# Altium integrated library Altium_Ceramic_Cap.IntLib: 110 symbols (part 2 of 3)
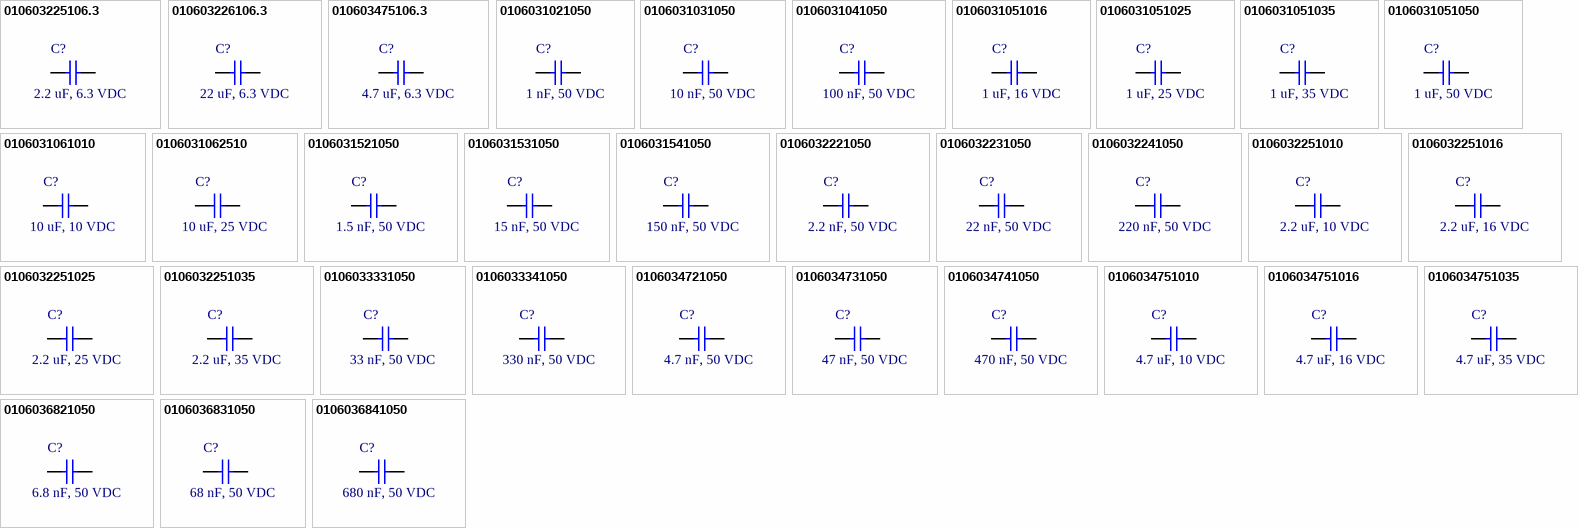
[diagram p6: symbols 010603225106.3 to 0106036841050]

## 0106032251035
designator C?, comment 2.2 uF, 35 VDC
CAP, size 0603, 2.2 uF, 35 VDC, 10%; Manufacturer: Samsung Electro-Mechanics; Manufacturer Part Number: CL10A225KL8NNNC; Capacitance: 2.2 uF; Tolerance: +/-10%; Voltage Rating DC: 35 VDC; Packaging: Tape and Reel; Supplier 1 URL: https://www.mouser.vn/ProductDetail/Samsung-Electro-Mechanics/CL10A225KL8NNNC?qs=xZ%2FP%252Ba9zWqba%2FklSReM66A%3D%3D&utm_source=mouser-refine-download&utm_medium=file&utm_campaign=CL10A225KL8NNNC&utm_content=Samsung-Electro-Mechanics; Supplier 2 URL: https://www.digikey.com/en/products/detail/samsung-electro-mechanics/cl10a225kl8nnnc/5961210; Supplier 3 URL: N/A; Value: 2.2 uF, 35 VDC; Supplier 1: Mouser; Supplier 1 Part Number: 187-CL10A225KL8NNNC; Supplier 2: Digi-Key; Supplier 2 Part Number: 1276-6726-2-ND; Supplier 3: thegioiic; Supplier 3 Part Number: N/A; ComponentLink1Description: Datasheet; ComponentLink1URL: https://www.mouser.vn/datasheet/2/585/MLCC-1837944.pdf; Mount: SMD/SMT; Operating Temperature Max: + 85 C; Operating Temperature Min: - 40 C; Package / Case: 0603; LCSC Part #: N/A
footprint CAP_0603
pins: 1, 2

## 0106033331050
designator C?, comment 33 nF, 50 VDC
CAP, size 0603, 33 nF, 50 VDC, 10%; Manufacturer: TDK; Manufacturer Part Number: CGA3E2X7R1H333K080AA; Capacitance: 33 nF; Tolerance: +/-10%; Voltage Rating DC: 50 VDC; Packaging: Tape and Reel; Supplier 1 URL: https://www.mouser.com/ProductDetail/TDK/CGA3E2X7R1H333K080AA?qs=NRhsANhppD8XLu6u%252B%2FdPcg%3D%3D&utm_source=mouser-refine-download&utm_medium=file&utm_campaign=CGA3E2X7R1H333K080AA&utm_content=TDK; Supplier 2 URL: https://www.digikey.com/en/products/detail/tdk-corporation/cga3e2x7r1h333k080aa/2672817; Supplier 3 URL: N/A; Value: 33 nF, 50 VDC; Supplier 1: Mouser; Supplier 1 Part Number: 810-CGA3E2X7R1H333K; Supplier 2: Digi-Key; Supplier 2 Part Number: 445-6924-2-ND; Supplier 3: thegioiic; Supplier 3 Part Number: N/A; ComponentLink1Description: Datasheet; ComponentLink1URL: https://product.tdk.com/system/files/dam/doc/product/capacitor/ceramic/mlcc/catalog/mlcc_automotive_general_en.pdf?ref_disty=mouser; Mount: SMD/SMT; Operating Temperature Max: + 85 C; Operating Temperature Min: - 40 C; Package / Case: 0603; LCSC Part #: N/A
footprint CAP_0603
pins: 1, 2

## 0106033341050
designator C?, comment 330 nF, 50 VDC
CAP, size 0603, 330 nF, 50 VDC, 10%; Manufacturer: TDK; Manufacturer Part Number: CGA3E3X7R1H334K080AB; Capacitance: 330 nF; Tolerance: +/-10%; Voltage Rating DC: 50 VDC; Packaging: Tape and Reel; Supplier 1 URL: https://www.mouser.com/ProductDetail/TDK/CGA3E3X7R1H334K080AB?qs=xLDY6iXSiQYX1%2FLGJVHTlg%3D%3D&utm_source=mouser-refine-download&utm_medium=file&utm_campaign=CGA3E3X7R1H334K080AB&utm_content=TDK; Supplier 2 URL: https://www.digikey.com/en/products/detail/tdk-corporation/cga3e3x7r1h334k080ab/4931465; Supplier 3 URL: N/A; Value: 330 nF, 50 VDC; Supplier 1: Mouser; Supplier 1 Part Number: 810-CGA3E3X7R1H334KB; Supplier 2: Digi-Key; Supplier 2 Part Number: 445-174426-2-ND; Supplier 3: thegioiic; Supplier 3 Part Number: N/A; ComponentLink1Description: Datasheet; ComponentLink1URL: https://product.tdk.com/system/files/dam/doc/product/capacitor/ceramic/mlcc/catalog/mlcc_automotive_general_en.pdf?ref_disty=mouser; Mount: SMD/SMT; Operating Temperature Max: + 85 C; Operating Temperature Min: - 40 C; Package / Case: 0603; LCSC Part #: N/A
footprint CAP_0603
pins: 1, 2

## 0106034721050
designator C?, comment 4.7 nF, 50 VDC
CAP, size 0603, 4.7 nF, 50 VDC, 10%; Manufacturer: TDK; Manufacturer Part Number: CGA3E2X7R1H472K080AE; Capacitance: 4.7 nF; Tolerance: +/-10%; Voltage Rating DC: 50 VDC; Packaging: Tape and Reel; Supplier 1 URL: https://www.mouser.com/ProductDetail/TDK/CGA3E2X7R1H472K080AE?qs=nQSIdc08i%252BfCN3g%2Fbr3IGA%3D%3D&utm_source=mouser-refine-download&utm_medium=file&utm_campaign=CGA3E2X7R1H472K080AE&utm_content=TDK; Supplier 2 URL: https://www.digikey.com/en/products/detail/tdk-corporation/cga3e2x7r1h472k080ae/5809256; Supplier 3 URL: https://www.thegioiic.com/tu-gom-0603-4-7nf-50v; Value: 4.7 nF, 50 VDC; Supplier 1: Mouser; Supplier 1 Part Number: 810-CGA3E2X7R1H472KA; Supplier 2: Digi-Key; Supplier 2 Part Number: 445-173691-2-ND; Supplier 3: thegioiic; Supplier 3 Part Number: N/A; ComponentLink1Description: Datasheet; ComponentLink1URL: https://product.tdk.com/system/files/dam/doc/product/capacitor/ceramic/mlcc/catalog/mlcc_automotive_soft_en.pdf?ref_disty=mouser; Mount: SMD/SMT; Operating Temperature Max: + 85 C; Operating Temperature Min: - 40 C; Package / Case: 0603; LCSC Part #: N/A
footprint CAP_0603
pins: 1, 2

## 0106034731050
designator C?, comment 47 nF, 50 VDC
CAP, size 0603, 47 nF, 50 VDC, 10%; Manufacturer: TDK; Manufacturer Part Number: CGA3E2X7R1H473K080AA; Capacitance: 47 nF; Tolerance: +/-10%; Voltage Rating DC: 50 VDC; Packaging: Tape and Reel; Supplier 1 URL: https://www.mouser.com/ProductDetail/TDK/CGA3E2X7R1H473K080AA?qs=NRhsANhppD%252BXNlr9LoLgTw%3D%3D&utm_source=mouser-refine-download&utm_medium=file&utm_campaign=CGA3E2X7R1H473K080AA&utm_content=TDK; Supplier 2 URL: https://www.digikey.com/en/products/detail/tdk-corporation/cga3e2x7r1h473k080aa/2443142; Supplier 3 URL: N/A; Value: 47 nF, 50 VDC; Supplier 1: Mouser; Supplier 1 Part Number: 810-CGA3E2X7R1H473K; Supplier 2: Digi-Key; Supplier 2 Part Number: 445-5664-2-ND; Supplier 3: thegioiic; Supplier 3 Part Number: N/A; ComponentLink1Description: Datasheet; ComponentLink1URL: https://product.tdk.com/system/files/dam/doc/product/capacitor/ceramic/mlcc/catalog/mlcc_automotive_general_en.pdf?ref_disty=mouser; Mount: SMD/SMT; Operating Temperature Max: + 85 C; Operating Temperature Min: - 40 C; Package / Case: 0603; LCSC Part #: N/A
footprint CAP_0603
pins: 1, 2

## 0106034741050
designator C?, comment 470 nF, 50 VDC
CAP, size 0603, 470 nF, 50 VDC, 10%; Manufacturer: TDK; Manufacturer Part Number: CGA3E3X7R1H474K080AB; Capacitance: 470 nF; Tolerance: +/-10%; Voltage Rating DC: 50 VDC; Packaging: Tape and Reel; Supplier 1 URL: https://www.mouser.com/ProductDetail/TDK/CGA3E3X7R1H474K080AB?qs=xLDY6iXSiQYK0oGm7fVVjw%3D%3D&utm_source=mouser-refine-download&utm_medium=file&utm_campaign=CGA3E3X7R1H474K080AB&utm_content=TDK; Supplier 2 URL: https://www.digikey.com/en/products/detail/tdk-corporation/cga3e3x7r1h474k080ab/4931467; Supplier 3 URL: N/A; Value: 470 nF, 50 VDC; Supplier 1: Mouser; Supplier 1 Part Number: 810-CGA3E3X7R1H474KB; Supplier 2: Digi-Key; Supplier 2 Part Number: 445-175200-2-ND; Supplier 3: thegioiic; Supplier 3 Part Number: N/A; ComponentLink1Description: Datasheet; ComponentLink1URL: https://product.tdk.com/system/files/dam/doc/product/capacitor/ceramic/mlcc/catalog/mlcc_automotive_general_en.pdf?ref_disty=mouser; Mount: SMD/SMT; Operating Temperature Max: + 85 C; Operating Temperature Min: - 40 C; Package / Case: 0603; LCSC Part #: N/A
footprint CAP_0603
pins: 1, 2

## 0106034751010
designator C?, comment 4.7 uF, 10 VDC
CAP, size 0603, 4.7 uF, 10 VDC, 10%; Manufacturer: Samsung Electro-Mechanics; Manufacturer Part Number: CL10A475KP8NNWC; Capacitance: 4.7 uF; Tolerance: +/-10%; Voltage Rating DC: 10 VDC; Packaging: Tape and Reel; Supplier 1 URL: https://www.mouser.vn/ProductDetail/Samsung-Electro-Mechanics/CL10A475KP8NNWC?qs=81r%252BiQLm7BQyXBb52PEUBA%3D%3D&utm_source=mouser-refine-download&utm_medium=file&utm_campaign=CL10A475KP8NNWC&utm_content=Samsung-Electro-Mechanics; Supplier 2 URL: https://www.digikey.com/en/products/detail/samsung-electro-mechanics/cl10a475kp8nnwc/16572736; Supplier 3 URL: https://www.thegioiic.com/tu-gom-0603-4-7uf-25v; Value: 4.7 uF, 10 VDC; Supplier 1: Mouser; Supplier 1 Part Number: 187-CL10A475KP8NNWC; Supplier 2: Digi-Key; Supplier 2 Part Number: 1276-CL10A475KP8NNWCTR-ND; Supplier 3: thegioiic; Supplier 3 Part Number: N/A; ComponentLink1Description: Datasheet; ComponentLink1URL: https://www.mouser.vn/datasheet/2/585/Samsung_MLCC_1837944-1929650.pdf; Mount: SMD/SMT; Operating Temperature Max: + 85 C; Operating Temperature Min: - 40 C; Package / Case: 0603; LCSC Part #: N/A
footprint CAP_0603
pins: 1, 2

## 0106034751016
designator C?, comment 4.7 uF, 16 VDC
CAP, size 0603, 4.7 uF, 16 VDC, 10%; Manufacturer: Samsung Electro-Mechanics; Manufacturer Part Number: CL10A475KO8NNNC; Capacitance: 4.7 uF; Tolerance: +/-10%; Voltage Rating DC: 16 VDC; Packaging: Tape and Reel; Supplier 1 URL: https://www.mouser.vn/ProductDetail/Samsung-Electro-Mechanics/CL10A475KO8NNNC?qs=X6jEic%2FHinAbIjmLnFfqqQ%3D%3D&utm_source=mouser-refine-download&utm_medium=file&utm_campaign=CL10A475KO8NNNC&utm_content=Samsung-Electro-Mechanics; Supplier 2 URL: https://www.digikey.com/en/products/detail/samsung-electro-mechanics/cl10a475ko8nnnc/3887442; Supplier 3 URL: N/A; Value: 4.7 uF, 16 VDC; Supplier 1: Mouser; Supplier 1 Part Number: 187-CL10A475KO8NNNC; Supplier 2: Digi-Key; Supplier 2 Part Number: 1276-1784-2-ND; Supplier 3: thegioiic; Supplier 3 Part Number: N/A; ComponentLink1Description: Datasheet; ComponentLink1URL: https://www.mouser.vn/datasheet/2/585/MLCC-1837944.pdf; Mount: SMD/SMT; Operating Temperature Max: + 85 C; Operating Temperature Min: - 40 C; Package / Case: 0603; LCSC Part #: N/A
footprint CAP_0603
pins: 1, 2

## 0106034751035
designator C?, comment 4.7 uF, 35 VDC
CAP, size 0603, 4.7 uF, 35 VDC, 10%; Manufacturer: Samsung Electro-Mechanics; Manufacturer Part Number: CL10A475KL8NRNC; Capacitance: 4.7 uF; Tolerance: +/-10%; Voltage Rating DC: 35 VDC; Packaging: Tape and Reel; Supplier 1 URL: https://www.mouser.vn/ProductDetail/Samsung-Electro-Mechanics/CL10A475KL8NRNC?qs=xZ%2FP%252Ba9zWqa0jfvJtp%252BUEg%3D%3D&utm_source=mouser-refine-download&utm_medium=file&utm_campaign=CL10A475KL8NRNC&utm_content=Samsung-Electro-Mechanics; Supplier 2 URL: https://www.digikey.com/en/products/detail/samsung-electro-mechanics/cl10a475kl8nrnc/5961278; Supplier 3 URL: https://www.thegioiic.com/tu-gom-0603-4-7uf-25v; Value: 4.7 uF, 35 VDC; Supplier 1: Mouser; Supplier 1 Part Number: 187-CL10A475KL8NRNC; Supplier 2: Digi-Key; Supplier 2 Part Number: 1276-6794-2-ND; Supplier 3: thegioiic; Supplier 3 Part Number: N/A; ComponentLink1Description: Datasheet; ComponentLink1URL: https://www.mouser.vn/datasheet/2/585/MLCC-1837944.pdf; Mount: SMD/SMT; Operating Temperature Max: + 85 C; Operating Temperature Min: - 40 C; Package / Case: 0603; LCSC Part #: C307467
footprint CAP_0603
pins: 1, 2

## 0106036821050
designator C?, comment 6.8 nF, 50 VDC
CAP, size 0603, 6.8 nF, 50 VDC, 10%; Manufacturer: TDK; Manufacturer Part Number: CGA3E2X7R1H682K080AA; Capacitance: 6.8 nF; Tolerance: +/-10%; Voltage Rating DC: 50 VDC; Packaging: Tape and Reel; Supplier 1 URL: https://www.mouser.com/ProductDetail/TDK/CGA3E2X7R1H682K080AA?qs=NRhsANhppD8xpr2Ztz0zlg%3D%3D&utm_source=mouser-refine-download&utm_medium=file&utm_campaign=CGA3E2X7R1H682K080AA&utm_content=TDK; Supplier 2 URL: https://www.digikey.com/en/products/detail/tdk-corporation/cga3e2x7r1h682k080aa/2672815; Supplier 3 URL: N/A; Value: 6.8 nF, 50 VDC; Supplier 1: Mouser; Supplier 1 Part Number: 810-CGA3E2X7R1H682K; Supplier 2: Digi-Key; Supplier 2 Part Number: 445-6922-2-ND; Supplier 3: thegioiic; Supplier 3 Part Number: N/A; ComponentLink1Description: Datasheet; ComponentLink1URL: https://product.tdk.com/system/files/dam/doc/product/capacitor/ceramic/mlcc/catalog/mlcc_automotive_general_en.pdf?ref_disty=mouser; Mount: SMD/SMT; Operating Temperature Max: + 85 C; Operating Temperature Min: - 40 C; Package / Case: 0603; LCSC Part #: N/A
footprint CAP_0603
pins: 1, 2

## 0106036831050
designator C?, comment 68 nF, 50 VDC
CAP, size 0603, 68 nF, 50 VDC, 10%; Manufacturer: TDK; Manufacturer Part Number: CGA3E2X7R1H683K080AA; Capacitance: 68 nF; Tolerance: +/-10%; Voltage Rating DC: 50 VDC; Packaging: Tape and Reel; Supplier 1 URL: https://www.mouser.com/ProductDetail/TDK/CGA3E2X7R1H683K080AA?qs=NRhsANhppD%252BWyOHUcAY%252Bxg%3D%3D&utm_source=mouser-refine-download&utm_medium=file&utm_campaign=CGA3E2X7R1H683K080AA&utm_content=TDK; Supplier 2 URL: https://www.digikey.com/en/products/detail/tdk-corporation/cga3e2x7r1h683k080aa/2443143; Supplier 3 URL: N/A; Value: 68 nF, 50 VDC; Supplier 1: Mouser; Supplier 1 Part Number: 810-CGA3E2X7R1H683K; Supplier 2: Digi-Key; Supplier 2 Part Number: 445-5665-2-ND; Supplier 3: thegioiic; Supplier 3 Part Number: N/A; ComponentLink1Description: Datasheet; ComponentLink1URL: https://product.tdk.com/system/files/dam/doc/product/capacitor/ceramic/mlcc/catalog/mlcc_automotive_general_en.pdf?ref_disty=mouser; Mount: SMD/SMT; Operating Temperature Max: + 85 C; Operating Temperature Min: - 40 C; Package / Case: 0603; LCSC Part #: N/A
footprint CAP_0603
pins: 1, 2

## 0106036841050
designator C?, comment 680 nF, 50 VDC
CAP, size 0603, 680 nF, 50 VDC, 10%; Manufacturer: TDK; Manufacturer Part Number: CGA3E3X5R1H684K080AB; Capacitance: 680 nF; Tolerance: +/-10%; Voltage Rating DC: 50 VDC; Packaging: Tape and Reel; Supplier 1 URL: https://www.mouser.com/ProductDetail/TDK/CGA3E3X5R1H684K080AB?qs=xLDY6iXSiQYxQezqra8RMg%3D%3D&utm_source=mouser-refine-download&utm_medium=file&utm_campaign=CGA3E3X5R1H684K080AB&utm_content=TDK; Supplier 2 URL: https://www.digikey.com/en/products/detail/tdk-corporation/cga3e3x5r1h684k080ab/3949744; Supplier 3 URL: N/A; Value: 680 nF, 50 VDC; Supplier 1: Mouser; Supplier 1 Part Number: 810-CGA3E3X5R1H684KB; Supplier 2: Digi-Key; Supplier 2 Part Number: 445-12508-2-ND; Supplier 3: thegioiic; Supplier 3 Part Number: N/A; ComponentLink1Description: Datasheet; ComponentLink1URL: https://product.tdk.com/system/files/dam/doc/product/capacitor/ceramic/mlcc/catalog/mlcc_automotive_general_en.pdf?ref_disty=mouser; Mount: SMD/SMT; Operating Temperature Max: + 85 C; Operating Temperature Min: - 40 C; Package / Case: 0603; LCSC Part #: N/A
footprint CAP_0603
pins: 1, 2


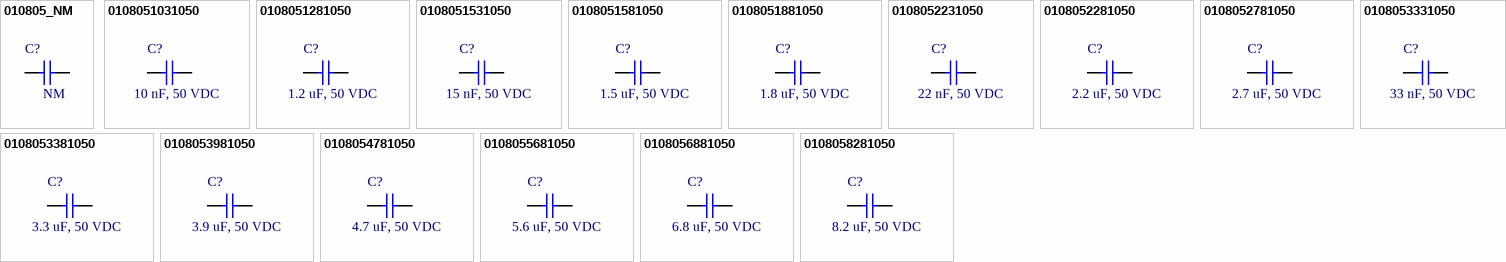
[diagram p2: symbols 010805_NM to 0108058281050]

## 010805_NM
designator C?, comment NM
CAP, size 0805, NM, N/A; Packaging: Tape and Reel; Capacitance: N/A; Supplier 1: Mouser; Supplier 1 Part Number: N/A; Supplier 1 URL: N/A; Supplier 2: Digi-Key; Supplier 2 Part Number: N/A; Supplier 2 URL: N/A; Supplier 3: thegioiic; Supplier 3 Part Number: N/A; Supplier 3 URL: N/A; Tolerance: N/A; Voltage Rating DC: N/A; Value: NM; Manufacturer: N/A; Manufacturer Part Number: N/A; ComponentLink1Description: Datasheet; ComponentLink1URL: N/A; Mount: SMD/SMT; Operating Temperature Max: + 85 C; Operating Temperature Min: - 40 C; Package / Case: 0805
footprint CAP_0805
pins: 1, 2

## 0108051031050
designator C?, comment 10 nF, 50 VDC
CAP, size 0805, 10 nF, 50 VDC, 5%; Manufacturer: TDK; Manufacturer Part Number: CGA4C2C0G1H103J060AA; Capacitance: 10 nF; Tolerance: +/-5%; Voltage Rating DC: 50 VDC; Packaging: Tape and Reel; Supplier 1: Mouser; Supplier 1 Part Number: 810-CGA4C2C0G1H103J; Supplier 1 URL: https://www.mouser.vn/ProductDetail/TDK/CGA4C2C0G1H103J060AA?qs=FxQuwy19cyC9M6v0nMqjhA%3D%3D&utm_source=mouser-refine-download&utm_medium=file&utm_campaign=CGA4C2C0G1H103J060AA&utm_content=TDK; Supplier 2: Digi-Key; Supplier 2 Part Number: 445-6947-2-ND; Supplier 2 URL: https://www.digikey.com/en/products/detail/tdk-corporation/cga4c2c0g1h103j060aa/2672840; Supplier 3: thegioiic; Supplier 3 Part Number: OEM; Supplier 3 URL: N/A; Value: 10 nF, 50 VDC; ComponentLink1Description: Datasheet; ComponentLink1URL: https://product.tdk.com/system/files/dam/doc/product/capacitor/ceramic/mlcc/catalog/mlcc_automotive_general_en.pdf?ref_disty=mouser; Mount: SMD/SMT; Operating Temperature Max: + 85 C; Operating Temperature Min: - 40 C; Package / Case: 0805; LCSC Part #: C527201
footprint CAP_0805
pins: 1, 2

## 0108051281050
designator C?, comment 1.2 uF, 50 VDC
CAP, size 0805, 1.2 uF, 50 VDC, 5%; Manufacturer: TDK; Manufacturer Part Number: CGA4C2C0G1H122J060AA; Capacitance: 1.2 uF; Tolerance: +/-5%; Voltage Rating DC: 50 VDC; Packaging: Tape and Reel; Supplier 1: Mouser; Supplier 1 Part Number: 810-CGA4C2C0G1H122JA; Supplier 1 URL: https://www.mouser.vn/ProductDetail/TDK/CGA4C2C0G1H122J060AA?qs=xLDY6iXSiQZfM38MYXQGOQ%3D%3D&utm_source=mouser-refine-download&utm_medium=file&utm_campaign=CGA4C2C0G1H122J060AA&utm_content=TDK; Supplier 2: Digi-Key; Supplier 2 Part Number: 445-12614-2-ND; Supplier 2 URL: https://www.digikey.com/en/products/detail/tdk-corporation/cga4c2c0g1h122j060aa/3949850; Supplier 3: thegioiic; Supplier 3 Part Number: OEM; Supplier 3 URL: N/A; Value: 1.2 uF, 50 VDC; ComponentLink1Description: Datasheet; ComponentLink1URL: https://product.tdk.com/system/files/dam/doc/product/capacitor/ceramic/mlcc/catalog/mlcc_automotive_general_en.pdf?ref_disty=mouser; Mount: SMD/SMT; Operating Temperature Max: + 85 C; Operating Temperature Min: - 40 C; Package / Case: 0805
footprint CAP_0805
pins: 1, 2

## 0108051531050
designator C?, comment 15 nF, 50 VDC
CAP, size 0805, 15 nF, 50 VDC, 5%; Manufacturer: TDK; Manufacturer Part Number: CGA4F2NP01H153J085AA; Capacitance: 15 nF; Tolerance: +/-5%; Voltage Rating DC: 50 VDC; Packaging: Tape and Reel; Supplier 1: Mouser; Supplier 1 Part Number: 810-CGA4F2NP01H153JA; Supplier 1 URL: https://www.mouser.vn/ProductDetail/TDK/CGA4F2NP01H153J085AA?qs=xLDY6iXSiQbFHNeB91aULg%3D%3D&utm_source=mouser-refine-download&utm_medium=file&utm_campaign=CGA4F2NP01H153J085AA&utm_content=TDK; Supplier 2: Digi-Key; Supplier 2 Part Number: 445-12627-2-ND; Supplier 2 URL: https://www.digikey.com/en/products/detail/tdk-corporation/cga4f2np01h153j085aa/3949863; Supplier 3: thegioiic; Supplier 3 Part Number: OEM; Supplier 3 URL: N/A; Value: 15 nF, 50 VDC; ComponentLink1Description: Datasheet; ComponentLink1URL: https://product.tdk.com/system/files/dam/doc/product/capacitor/ceramic/mlcc/catalog/mlcc_automotive_hightemp_en.pdf?ref_disty=mouser; Mount: SMD/SMT; Operating Temperature Max: + 85 C; Operating Temperature Min: - 40 C; Package / Case: 0805
footprint CAP_0805
pins: 1, 2

## 0108051581050
designator C?, comment 1.5 uF, 50 VDC
CAP, size 0805, 1.5 uF, 50 VDC, 5%; Manufacturer: TDK; Manufacturer Part Number: CGA4C2C0G1H152J060AA; Capacitance: 1.5 uF; Tolerance: +/-5%; Voltage Rating DC: 50 VDC; Packaging: Tape and Reel; Supplier 1: Mouser; Supplier 1 Part Number: 810-CGA4C2C0G1H152JA; Supplier 1 URL: https://www.mouser.vn/ProductDetail/TDK/CGA4C2C0G1H152J060AA?qs=xLDY6iXSiQY%252BsteeFjMAwQ%3D%3D&utm_source=mouser-refine-download&utm_medium=file&utm_campaign=CGA4C2C0G1H152J060AA&utm_content=TDK; Supplier 2: Digi-Key; Supplier 2 Part Number: 445-12615-2-ND; Supplier 2 URL: https://www.digikey.com/en/products/detail/tdk-corporation/cga4c2c0g1h152j060aa/3949851; Supplier 3: thegioiic; Supplier 3 Part Number: OEM; Supplier 3 URL: N/A; Value: 1.5 uF, 50 VDC; ComponentLink1Description: Datasheet; ComponentLink1URL: https://product.tdk.com/system/files/dam/doc/product/capacitor/ceramic/mlcc/catalog/mlcc_automotive_general_en.pdf?ref_disty=mouser; Mount: SMD/SMT; Operating Temperature Max: + 85 C; Operating Temperature Min: - 40 C; Package / Case: 0805
footprint CAP_0805
pins: 1, 2

## 0108051881050
designator C?, comment 1.8 uF, 50 VDC
CAP, size 0805, 1.8 uF, 50 VDC, 5%; Manufacturer: TDK; Manufacturer Part Number: CGA4C2C0G1H182J060AA; Capacitance: 1.8 uF; Tolerance: +/-5%; Voltage Rating DC: 50 VDC; Packaging: Tape and Reel; Supplier 1: Mouser; Supplier 1 Part Number: 810-CGA4C2C0G1H182JA; Supplier 1 URL: https://www.mouser.vn/ProductDetail/TDK/CGA4C2C0G1H182J060AA?qs=xLDY6iXSiQZ5Wh3caYDeRA%3D%3D&utm_source=mouser-refine-download&utm_medium=file&utm_campaign=CGA4C2C0G1H182J060AA&utm_content=TDK; Supplier 2: Digi-Key; Supplier 2 Part Number: 445-12616-2-ND; Supplier 2 URL: https://www.digikey.com/en/products/detail/tdk-corporation/cga4c2c0g1h182j060aa/3949852; Supplier 3: thegioiic; Supplier 3 Part Number: OEM; Supplier 3 URL: N/A; Value: 1.8 uF, 50 VDC; ComponentLink1Description: Datasheet; ComponentLink1URL: https://product.tdk.com/system/files/dam/doc/product/capacitor/ceramic/mlcc/catalog/mlcc_automotive_general_en.pdf?ref_disty=mouser; Mount: SMD/SMT; Operating Temperature Max: + 85 C; Operating Temperature Min: - 40 C; Package / Case: 0805
footprint CAP_0805
pins: 1, 2

## 0108052231050
designator C?, comment 22 nF, 50 VDC
CAP, size 0805, 22 nF, 50 VDC, 5%; Manufacturer: TDK; Manufacturer Part Number: CGA4J2C0G1H223J125AA; Capacitance: 22 nF; Tolerance: +/-5%; Voltage Rating DC: 50 VDC; Packaging: Tape and Reel; Supplier 1: Mouser; Supplier 1 Part Number: 810-CGA4J2C0G1H223J; Supplier 1 URL: https://www.mouser.vn/ProductDetail/TDK/CGA4J2C0G1H223J125AA?qs=NRhsANhppD%252B%2Fmt276RAXag%3D%3D&utm_source=mouser-refine-download&utm_medium=file&utm_campaign=CGA4J2C0G1H223J125AA&utm_content=TDK; Supplier 2: Digi-Key; Supplier 2 Part Number: 445-6949-2-ND; Supplier 2 URL: https://www.digikey.com/en/products/detail/tdk-corporation/cga4j2c0g1h223j125aa/2672842; Supplier 3: thegioiic; Supplier 3 Part Number: OEM; Supplier 3 URL: N/A; Value: 22 nF, 50 VDC; ComponentLink1Description: Datasheet; ComponentLink1URL: https://product.tdk.com/system/files/dam/doc/product/capacitor/ceramic/mlcc/catalog/mlcc_automotive_general_en.pdf?ref_disty=mouser; Mount: SMD/SMT; Operating Temperature Max: + 85 C; Operating Temperature Min: - 40 C; Package / Case: 0805
footprint CAP_0805
pins: 1, 2

## 0108052281050
designator C?, comment 2.2 uF, 50 VDC
CAP, size 0805, 2.2 uF, 50 VDC, 5%; Manufacturer: TDK; Manufacturer Part Number: CGA4C2C0G1H222J060AA; Capacitance: 2.2 uF; Tolerance: +/-5%; Voltage Rating DC: 50 VDC; Packaging: Tape and Reel; Supplier 1: Mouser; Supplier 1 Part Number: 810-CGA4C2C0G1H222J; Supplier 1 URL: https://www.mouser.vn/ProductDetail/TDK/CGA4C2C0G1H222J060AA?qs=FxQuwy19cyBuFwn29Pt%2FRg%3D%3D&utm_source=mouser-refine-download&utm_medium=file&utm_campaign=CGA4C2C0G1H222J060AA&utm_content=TDK; Supplier 2: Digi-Key; Supplier 2 Part Number: 445-6941-2-ND; Supplier 2 URL: https://www.digikey.com/en/products/detail/tdk-corporation/cga4c2c0g1h222j060aa/2672834; Supplier 3: thegioiic; Supplier 3 Part Number: OEM; Supplier 3 URL: N/A; Value: 2.2 uF, 50 VDC; ComponentLink1Description: Datasheet; ComponentLink1URL: https://product.tdk.com/system/files/dam/doc/product/capacitor/ceramic/mlcc/catalog/mlcc_automotive_general_en.pdf?ref_disty=mouser; Mount: SMD/SMT; Operating Temperature Max: + 85 C; Operating Temperature Min: - 40 C; Package / Case: 0805
footprint CAP_0805
pins: 1, 2

## 0108052781050
designator C?, comment 2.7 uF, 50 VDC
CAP, size 0805, 2.7 uF, 50 VDC, 5%; Manufacturer: TDK; Manufacturer Part Number: CGA4C2C0G1H272J060AA; Capacitance: 2.7 uF; Tolerance: +/-5%; Voltage Rating DC: 50 VDC; Packaging: Tape and Reel; Supplier 1: Mouser; Supplier 1 Part Number: 810-CGA4C2C0G1H272J; Supplier 1 URL: https://www.mouser.vn/ProductDetail/TDK/CGA4C2C0G1H272J060AA?qs=FxQuwy19cyDK2SI%2FAkg0pQ%3D%3D&utm_source=mouser-refine-download&utm_medium=file&utm_campaign=CGA4C2C0G1H272J060AA&utm_content=TDK; Supplier 2: Digi-Key; Supplier 2 Part Number: 445-5674-2-ND; Supplier 2 URL: https://www.digikey.com/en/products/detail/tdk-corporation/cga4c2c0g1h272j060aa/2443152; Supplier 3: thegioiic; Supplier 3 Part Number: OEM; Supplier 3 URL: N/A; Value: 2.7 uF, 50 VDC; ComponentLink1Description: Datasheet; ComponentLink1URL: https://product.tdk.com/system/files/dam/doc/product/capacitor/ceramic/mlcc/catalog/mlcc_automotive_general_en.pdf?ref_disty=mouser; Mount: SMD/SMT; Operating Temperature Max: + 85 C; Operating Temperature Min: - 40 C; Package / Case: 0805
footprint CAP_0805
pins: 1, 2

## 0108053331050
designator C?, comment 33 nF, 50 VDC
CAP, size 0805, 33 nF, 50 VDC, 5%; Manufacturer: TDK; Manufacturer Part Number: CGA4J2C0G1H333J125AA; Capacitance: 33 nF; Tolerance: +/-5%; Voltage Rating DC: 50 VDC; Packaging: Tape and Reel; Supplier 1: Mouser; Supplier 1 Part Number: 810-CGA4J2C0G1H333J; Supplier 1 URL: https://www.mouser.vn/ProductDetail/TDK/CGA4J2C0G1H333J125AA?qs=FxQuwy19cyA3MDBBAaLhVw%3D%3D&utm_source=mouser-refine-download&utm_medium=file&utm_campaign=CGA4J2C0G1H333J125AA&utm_content=TDK; Supplier 2: Digi-Key; Supplier 2 Part Number: 445-6950-2-ND; Supplier 2 URL: https://www.digikey.com/en/products/detail/tdk-corporation/cga4j2c0g1h333j125aa/2672843; Supplier 3: thegioiic; Supplier 3 Part Number: OEM; Supplier 3 URL: N/A; Value: 33 nF, 50 VDC; ComponentLink1Description: Datasheet; ComponentLink1URL: https://product.tdk.com/system/files/dam/doc/product/capacitor/ceramic/mlcc/catalog/mlcc_automotive_general_en.pdf?ref_disty=mouser; Mount: SMD/SMT; Operating Temperature Max: + 85 C; Operating Temperature Min: - 40 C; Package / Case: 0805
footprint CAP_0805
pins: 1, 2

## 0108053381050
designator C?, comment 3.3 uF, 50 VDC
CAP, size 0805, 3.3 uF, 50 VDC, 5%; Manufacturer: TDK; Manufacturer Part Number: CGA4C2NP01H332J060AA; Capacitance: 3.3 uF; Tolerance: +/-5%; Voltage Rating DC: 50 VDC; Packaging: Tape and Reel; Supplier 1: Mouser; Supplier 1 Part Number: 810-CGA4C2NP01H332JA; Supplier 1 URL: https://www.mouser.vn/ProductDetail/TDK/CGA4C2NP01H332J060AA?qs=xLDY6iXSiQZMdiLchQlKQQ%3D%3D&utm_source=mouser-refine-download&utm_medium=file&utm_campaign=CGA4C2NP01H332J060AA&utm_content=TDK; Supplier 2: Digi-Key; Supplier 2 Part Number: 445-12631-2-ND; Supplier 2 URL: https://www.digikey.com/en/products/detail/tdk-corporation/cga4c2np01h332j060aa/3949867; Supplier 3: thegioiic; Supplier 3 Part Number: OEM; Supplier 3 URL: N/A; Value: 3.3 uF, 50 VDC; ComponentLink1Description: Datasheet; ComponentLink1URL: https://product.tdk.com/system/files/dam/doc/product/capacitor/ceramic/mlcc/catalog/mlcc_automotive_hightemp_en.pdf?ref_disty=mouser; Mount: SMD/SMT; Operating Temperature Max: + 85 C; Operating Temperature Min: - 40 C; Package / Case: 0805
footprint CAP_0805
pins: 1, 2

## 0108053981050
designator C?, comment 3.9 uF, 50 VDC
CAP, size 0805, 3.9 uF, 50 VDC, 5%; Manufacturer: TDK; Manufacturer Part Number: CGA4C2C0G1H392J060AA; Capacitance: 3.9 uF; Tolerance: +/-5%; Voltage Rating DC: 50 VDC; Packaging: Tape and Reel; Supplier 1: Mouser; Supplier 1 Part Number: 810-CGA4C2C0G1H392J; Supplier 1 URL: https://www.mouser.vn/ProductDetail/TDK/CGA4C2C0G1H392J060AA?qs=FxQuwy19cyB31xuSDAF8VQ%3D%3D&utm_source=mouser-refine-download&utm_medium=file&utm_campaign=CGA4C2C0G1H392J060AA&utm_content=TDK; Supplier 2: Digi-Key; Supplier 2 Part Number: 445-6942-2-ND; Supplier 2 URL: https://www.digikey.com/en/products/detail/tdk-corporation/cga4c2c0g1h392j060aa/2672835; Supplier 3: thegioiic; Supplier 3 Part Number: OEM; Supplier 3 URL: N/A; Value: 3.9 uF, 50 VDC; ComponentLink1Description: Datasheet; ComponentLink1URL: https://product.tdk.com/system/files/dam/doc/product/capacitor/ceramic/mlcc/catalog/mlcc_automotive_general_en.pdf?ref_disty=mouser; Mount: SMD/SMT; Operating Temperature Max: + 85 C; Operating Temperature Min: - 40 C; Package / Case: 0805
footprint CAP_0805
pins: 1, 2

## 0108054781050
designator C?, comment 4.7 uF, 50 VDC
CAP, size 0805, 4.7 uF, 50 VDC, 5%; Manufacturer: TDK; Manufacturer Part Number: CGA4C2C0G1H472J060AA; Capacitance: 4.7 uF; Tolerance: +/-5%; Voltage Rating DC: 50 VDC; Packaging: Tape and Reel; Supplier 1: Mouser; Supplier 1 Part Number: 810-CGA4C2C0G1H472J; Supplier 1 URL: https://www.mouser.vn/ProductDetail/TDK/CGA4C2C0G1H472J060AA?qs=FxQuwy19cyCgdYzJw5%252BHfA%3D%3D&utm_source=mouser-refine-download&utm_medium=file&utm_campaign=CGA4C2C0G1H472J060AA&utm_content=TDK; Supplier 2: Digi-Key; Supplier 2 Part Number: 445-6943-2-ND; Supplier 2 URL: https://www.digikey.com/en/products/detail/tdk-corporation/cga4c2c0g1h472j060aa/2672836; Supplier 3: thegioiic; Supplier 3 Part Number: OEM; Supplier 3 URL: N/A; Value: 4.7 uF, 50 VDC; ComponentLink1Description: Datasheet; ComponentLink1URL: https://product.tdk.com/system/files/dam/doc/product/capacitor/ceramic/mlcc/catalog/mlcc_automotive_general_en.pdf?ref_disty=mouser; Mount: SMD/SMT; Operating Temperature Max: + 85 C; Operating Temperature Min: - 40 C; Package / Case: 0805
footprint CAP_0805
pins: 1, 2

## 0108055681050
designator C?, comment 5.6 uF, 50 VDC
CAP, size 0805, 5.6 uF, 50 VDC, 5%; Manufacturer: TDK; Manufacturer Part Number: CGA4C2C0G1H562J060AA; Capacitance: 5.6 uF; Tolerance: +/-5%; Voltage Rating DC: 50 VDC; Packaging: Tape and Reel; Supplier 1: Mouser; Supplier 1 Part Number: 810-CGA4C2C0G1H562J; Supplier 1 URL: https://www.mouser.vn/ProductDetail/TDK/CGA4C2C0G1H562J060AA?qs=FxQuwy19cyCva2gwHgnsuw%3D%3D&utm_source=mouser-refine-download&utm_medium=file&utm_campaign=CGA4C2C0G1H562J060AA&utm_content=TDK; Supplier 2: Digi-Key; Supplier 2 Part Number: 445-6944-2-ND; Supplier 2 URL: https://www.digikey.com/en/products/detail/tdk-corporation/cga4c2c0g1h562j060aa/2672837; Supplier 3: thegioiic; Supplier 3 Part Number: OEM; Supplier 3 URL: N/A; Value: 5.6 uF, 50 VDC; ComponentLink1Description: Datasheet; ComponentLink1URL: https://product.tdk.com/system/files/dam/doc/product/capacitor/ceramic/mlcc/catalog/mlcc_automotive_general_en.pdf?ref_disty=mouser; Mount: SMD/SMT; Operating Temperature Max: + 85 C; Operating Temperature Min: - 40 C; Package / Case: 0805
footprint CAP_0805
pins: 1, 2

## 0108056881050
designator C?, comment 6.8 uF, 50 VDC
CAP, size 0805, 6.8 uF, 50 VDC, 5%; Manufacturer: TDK; Manufacturer Part Number: CGA4C2NP01H682J060AA; Capacitance: 6.8 uF; Tolerance: +/-5%; Voltage Rating DC: 50 VDC; Packaging: Tape and Reel; Supplier 1: Mouser; Supplier 1 Part Number: 810-CGA4C2NP01H682JA; Supplier 1 URL: https://www.mouser.vn/ProductDetail/TDK/CGA4C2NP01H682J060AA?qs=xLDY6iXSiQaMapGZq4seYg%3D%3D&utm_source=mouser-refine-download&utm_medium=file&utm_campaign=CGA4C2NP01H682J060AA&utm_content=TDK; Supplier 2: Digi-Key; Supplier 2 Part Number: 445-12635-2-ND; Supplier 2 URL: https://www.digikey.com/en/products/detail/tdk-corporation/cga4c2np01h682j060aa/3949871; Supplier 3: thegioiic; Supplier 3 Part Number: OEM; Supplier 3 URL: N/A; Value: 6.8 uF, 50 VDC; ComponentLink1Description: Datasheet; ComponentLink1URL: https://product.tdk.com/system/files/dam/doc/product/capacitor/ceramic/mlcc/catalog/mlcc_automotive_hightemp_en.pdf?ref_disty=mouser; Mount: SMD/SMT; Operating Temperature Max: + 85 C; Operating Temperature Min: - 40 C; Package / Case: 0805
footprint CAP_0805
pins: 1, 2

## 0108058281050
designator C?, comment 8.2 uF, 50 VDC
CAP, size 0805, 8.2 uF, 50 VDC, 5%; Manufacturer: TDK; Manufacturer Part Number: CGA4C2C0G1H822J060AA; Capacitance: 8.2 uF; Tolerance: +/-5%; Voltage Rating DC: 50 VDC; Packaging: Tape and Reel; Supplier 1: Mouser; Supplier 1 Part Number: 810-CGA4C2C0G1H822J; Supplier 1 URL: https://www.mouser.vn/ProductDetail/TDK/CGA4C2C0G1H822J060AA?qs=FxQuwy19cyAK0jQ6P5l0pQ%3D%3D&utm_source=mouser-refine-download&utm_medium=file&utm_campaign=CGA4C2C0G1H822J060AA&utm_content=TDK; Supplier 2: Digi-Key; Supplier 2 Part Number: 445-6946-2-ND; Supplier 2 URL: https://www.digikey.com/en/products/detail/tdk-corporation/cga4c2c0g1h822j060aa/2672839; Supplier 3: thegioiic; Supplier 3 Part Number: OEM; Supplier 3 URL: N/A; Value: 8.2 uF, 50 VDC; ComponentLink1Description: Datasheet; ComponentLink1URL: https://product.tdk.com/system/files/dam/doc/product/capacitor/ceramic/mlcc/catalog/mlcc_automotive_general_en.pdf?ref_disty=mouser; Mount: SMD/SMT; Operating Temperature Max: + 85 C; Operating Temperature Min: - 40 C; Package / Case: 0805
footprint CAP_0805
pins: 1, 2


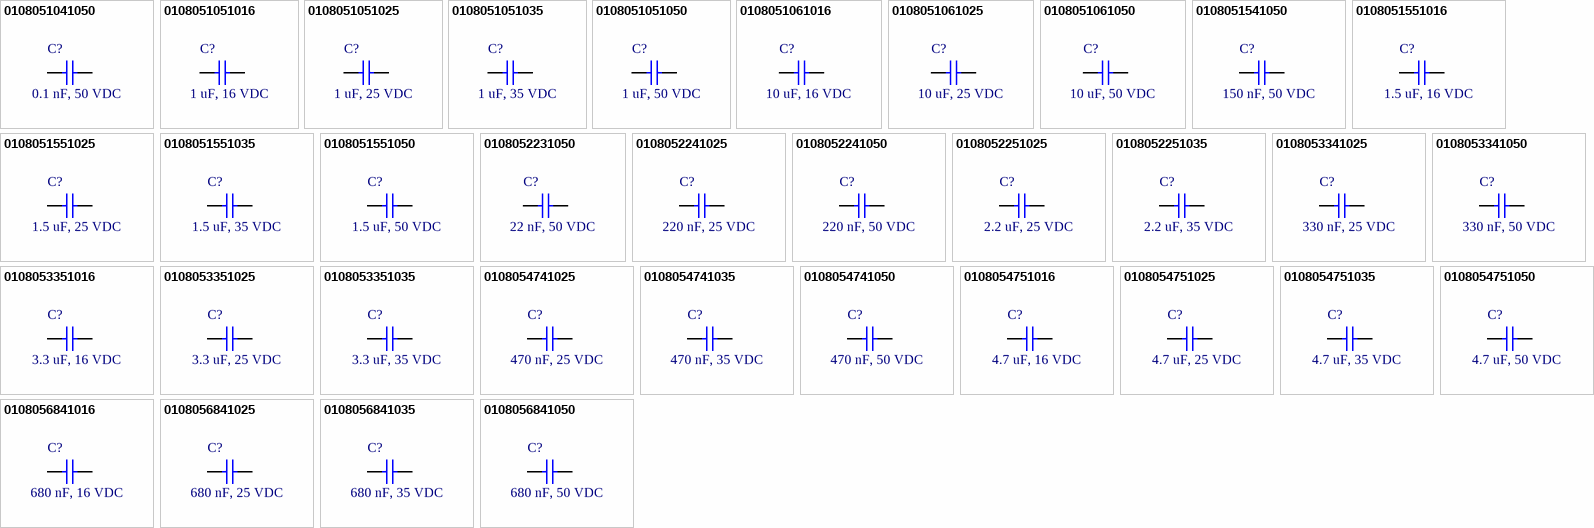
[diagram p3: symbols 0108051041050 to 0108056841050]

## 0108051041050
designator C?, comment 0.1 nF, 50 VDC
CAP, size 0805, 0.1 nF, 50 VDC, 10%; Manufacturer: TDK; Manufacturer Part Number: CGA4J2X8R1H104K125AD; Capacitance: 0.1 nF; Tolerance: +/-10%; Voltage Rating DC: 50 VDC; Packaging: Tape and Reel; Supplier 1 URL: https://www.mouser.vn/ProductDetail/TDK/CGA4J2X8R1H104K125AD?qs=LcTL%2F5vFEzExqZqv3rh1qQ%3D%3D&utm_source=mouser-refine-download&utm_medium=file&utm_campaign=CGA4J2X8R1H104K125AD&utm_content=TDK; Supplier 2 URL: https://www.digikey.com/en/products/detail/tdk-corporation/cga4j2x8r1h104k125ad/3248169; Supplier 3 URL: N/A; Value: 0.1 nF, 50 VDC; Supplier 1: Mouser; Supplier 1 Part Number: 810-C2012X8R1H104KEP; Supplier 2: Digi-Key; Supplier 2 Part Number: 445-8810-2-ND; Supplier 3: thegioiic; Supplier 3 Part Number: OEM; ComponentLink1Description: Datasheet; ComponentLink1URL: https://product.tdk.com/system/files/dam/doc/product/capacitor/ceramic/mlcc/catalog/mlcc_automotive_epoxy_en.pdf?ref_disty=mouser; Mount: SMD/SMT; Operating Temperature Max: + 85 C; Operating Temperature Min: - 40 C; Package / Case: 0805
footprint CAP_0805
pins: 1, 2

## 0108051051016
designator C?, comment 1 uF, 16 VDC
CAP, size 0805, 1 uF, 16 VDC, 10%; Manufacturer: TDK; Manufacturer Part Number: CGA4J2X7R1C105K125AA; Capacitance: 1 uF; Tolerance: +/-10%; Voltage Rating DC: 16 VDC; Packaging: Tape and Reel; Supplier 1 URL: https://www.mouser.vn/ProductDetail/TDK/CGA4J2X7R1C105K125AA?qs=NRhsANhppD8sFjo%252B1TQuCQ%3D%3D&utm_source=mouser-refine-download&utm_medium=file&utm_campaign=CGA4J2X7R1C105K125AA&utm_content=TDK; Supplier 2 URL: https://www.digikey.com/en/products/detail/tdk-corporation/cga4j2x7r1c105k125aa/2443167; Supplier 3 URL: N/A; Value: 1 uF, 16 VDC; Supplier 1: Mouser; Supplier 1 Part Number: 810-CGA4J2X7R1C105K; Supplier 2: Digi-Key; Supplier 2 Part Number: 445-5689-2-ND; Supplier 3: thegioiic; Supplier 3 Part Number: OEM; ComponentLink1Description: Datasheet; ComponentLink1URL: https://product.tdk.com/system/files/dam/doc/product/capacitor/ceramic/mlcc/catalog/mlcc_automotive_general_en.pdf?ref_disty=mouser; Mount: SMD/SMT; Operating Temperature Max: + 85 C; Operating Temperature Min: - 40 C; Package / Case: 0805
footprint CAP_0805
pins: 1, 2

## 0108051051025
designator C?, comment 1 uF, 25 VDC
CAP, size 0805, 1 uF, 25 VDC, 10%; Manufacturer: TDK; Manufacturer Part Number: CGA4J1X8R1E105K125AE; Capacitance: 1 uF; Tolerance: +/-10%; Voltage Rating DC: 25 VDC; Packaging: Tape and Reel; Supplier 1 URL: https://www.mouser.vn/ProductDetail/TDK/CGA4J1X8R1E105K125AE?qs=Ii670aiJhr6VRhkBsruYJg%3D%3D&utm_source=mouser-refine-download&utm_medium=file&utm_campaign=CGA4J1X8R1E105K125AE&utm_content=TDK; Supplier 2 URL: https://www.digikey.com/en/products/detail/tdk-corporation/cga4j1x8r1e105k125ae/6556490; Supplier 3 URL: N/A; Value: 1 uF, 25 VDC; Supplier 1: Mouser; Supplier 1 Part Number: 810-A4J1X815K125AE; Supplier 2: Digi-Key; Supplier 2 Part Number: 445-174807-2-ND; Supplier 3: thegioiic; Supplier 3 Part Number: OEM; ComponentLink1Description: Datasheet; ComponentLink1URL: https://product.tdk.com/system/files/dam/doc/product/capacitor/ceramic/mlcc/catalog/mlcc_automotive_soft_en.pdf?ref_disty=mouser; Mount: SMD/SMT; Operating Temperature Max: + 85 C; Operating Temperature Min: - 40 C; Package / Case: 0805
footprint CAP_0805
pins: 1, 2

## 0108051051035
designator C?, comment 1 uF, 35 VDC
CAP, size 0805, 1 uF, 35 VDC, 10%; Manufacturer: TDK; Manufacturer Part Number: CGA4J3X7R1V105K125AE; Capacitance: 1 uF; Tolerance: +/-10%; Voltage Rating DC: 35 VDC; Packaging: Tape and Reel; Supplier 1 URL: https://www.mouser.vn/ProductDetail/TDK/CGA4J3X7R1V105K125AE?qs=nQSIdc08i%252BeiqBo2hW7QzQ%3D%3D&utm_source=mouser-refine-download&utm_medium=file&utm_campaign=CGA4J3X7R1V105K125AE&utm_content=TDK; Supplier 2 URL: https://www.digikey.com/en/products/detail/tdk-corporation/cga4j3x7r1v105k125ae/5809275; Supplier 3 URL: N/A; Value: 1 uF, 35 VDC; Supplier 1: Mouser; Supplier 1 Part Number: 810-CGA4J3X7R1V105KA; Supplier 2: Digi-Key; Supplier 2 Part Number: 445-173710-2-ND; Supplier 3: thegioiic; Supplier 3 Part Number: OEM; ComponentLink1Description: Datasheet; ComponentLink1URL: https://product.tdk.com/system/files/dam/doc/product/capacitor/ceramic/mlcc/catalog/mlcc_automotive_soft_en.pdf?ref_disty=mouser; Mount: SMD/SMT; Operating Temperature Max: + 85 C; Operating Temperature Min: - 40 C; Package / Case: 0805
footprint CAP_0805
pins: 1, 2

## 0108051051050
designator C?, comment 1 uF, 50 VDC
CAP, size 0805, 1 uF, 50 VDC, 10%; Manufacturer: TDK; Manufacturer Part Number: CGA4J3X7R1H105K125AB; Capacitance: 1 uF; Tolerance: +/-10%; Voltage Rating DC: 50 VDC; Packaging: Tape and Reel; Supplier 1 URL: https://www.mouser.vn/ProductDetail/TDK/CGA4J3X7R1H105K125AB?qs=NRhsANhppD9cK8XQyI1JTg%3D%3D&utm_source=mouser-refine-download&utm_medium=file&utm_campaign=CGA4J3X7R1H105K125AB&utm_content=TDK; Supplier 2 URL: https://www.digikey.com/en/products/detail/tdk-corporation/cga4j3x7r1h105k125ab/2672854; Supplier 3 URL: N/A; Value: 1 uF, 50 VDC; Supplier 1: Mouser; Supplier 1 Part Number: 810-CGA4J3X7R1H105K; Supplier 2: Digi-Key; Supplier 2 Part Number: 445-6961-2-ND; Supplier 3: thegioiic; Supplier 3 Part Number: OEM; ComponentLink1Description: Datasheet; ComponentLink1URL: https://product.tdk.com/system/files/dam/doc/product/capacitor/ceramic/mlcc/catalog/mlcc_automotive_general_en.pdf?ref_disty=mouser; Mount: SMD/SMT; Operating Temperature Max: + 85 C; Operating Temperature Min: - 40 C; Package / Case: 0805; LCSC Part #: C28323
footprint CAP_0805
pins: 1, 2

## 0108051061016
designator C?, comment 10 uF, 16 VDC
CAP, size 0805, 10 uF, 16 VDC, 10%; Manufacturer: TDK; Manufacturer Part Number: CGA4J1X7S1C106K125AE; Capacitance: 10 uF; Tolerance: +/-10%; Voltage Rating DC: 16 VDC; Packaging: Tape and Reel; Supplier 1 URL: https://www.mouser.vn/ProductDetail/TDK/CGA4J1X7S1C106K125AE?qs=nQSIdc08i%252Bda5YDbrVYncg%3D%3D&utm_source=mouser-refine-download&utm_medium=file&utm_campaign=CGA4J1X7S1C106K125AE&utm_content=TDK; Supplier 2 URL: https://www.digikey.com/en/products/detail/tdk-corporation/cga4j1x7s1c106k125ae/5809239; Supplier 3 URL: N/A; Value: 10 uF, 16 VDC; Supplier 1: Mouser; Supplier 1 Part Number: 810-CGA4J1X7S1C106KA; Supplier 2: Digi-Key; Supplier 2 Part Number: 445-173674-2-ND; Supplier 3: thegioiic; Supplier 3 Part Number: OEM; ComponentLink1Description: Datasheet; ComponentLink1URL: https://product.tdk.com/system/files/dam/doc/product/capacitor/ceramic/mlcc/catalog/mlcc_automotive_soft_en.pdf?ref_disty=mouser; Mount: SMD/SMT; Operating Temperature Max: + 85 C; Operating Temperature Min: - 40 C; Package / Case: 0805
footprint CAP_0805
pins: 1, 2

## 0108051061025
designator C?, comment 10 uF, 25 VDC
CAP, size 0805, 10 uF, 25 VDC, 10%; Manufacturer: TDK; Manufacturer Part Number: CGA4J1X7S1E106K125AE; Capacitance: 10 uF; Tolerance: +/-10%; Voltage Rating DC: 25 VDC; Packaging: Tape and Reel; Supplier 1 URL: https://www.mouser.vn/ProductDetail/TDK/CGA4J1X7S1E106K125AE?qs=PqoDHHvF64%252BJvhmUzM2odA%3D%3D&utm_source=mouser-refine-download&utm_medium=file&utm_campaign=CGA4J1X7S1E106K125AE&utm_content=TDK; Supplier 2 URL: https://www.digikey.com/en/products/detail/tdk-corporation/cga4j1x7s1e106k125ae/9744777; Supplier 3 URL: N/A; Value: 10 uF, 25 VDC; Supplier 1: Mouser; Supplier 1 Part Number: 810-CGA4J1X7S1E106K2; Supplier 2: Digi-Key; Supplier 2 Part Number: 445-181411-2-ND; Supplier 3: thegioiic; Supplier 3 Part Number: OEM; ComponentLink1Description: Datasheet; ComponentLink1URL: https://product.tdk.com/system/files/dam/doc/product/capacitor/ceramic/mlcc/catalog/mlcc_automotive_soft_en.pdf?ref_disty=mouser; Mount: SMD/SMT; Operating Temperature Max: + 85 C; Operating Temperature Min: - 40 C; Package / Case: 0805; LCSC Part #: C15850
footprint CAP_0805
pins: 1, 2

## 0108051061050
designator C?, comment 10 uF, 50 VDC
CAP, size 0805, 10 uF, 50 VDC, 10%; Manufacturer: Samsung Electro-Mechanics; Manufacturer Part Number: CL21A106KBYQNNE; Capacitance: 10 uF; Tolerance: +/-10%; Voltage Rating DC: 50 VDC; Packaging: Tape and Reel; Supplier 1 URL: https://www.mouser.vn/ProductDetail/Samsung-Electro-Mechanics/CL21A106KBYQNNE?qs=xZ%2FP%252Ba9zWqbaYhx2cI%2FT%252BA%3D%3D; Supplier 2 URL: https://www.digikey.com/en/products/detail/samsung-electro-mechanics/cl21a106kbyqnne/16572745; Supplier 3 URL: N/A; Value: 10 uF, 50 VDC; Supplier 1: Mouser; Supplier 1 Part Number: 187-CL21A106KBYQNNE; Supplier 2: Digi-Key; Supplier 2 Part Number: 1276-CL21A106KBYQNNETR-ND; Supplier 3: thegioiic; Supplier 3 Part Number: OEM; ComponentLink1Description: Datasheet; ComponentLink1URL: https://www.mouser.vn/datasheet/2/585/MLCC-1837944.pdf; Mount: SMD/SMT; Operating Temperature Max: + 85 C; Operating Temperature Min: - 40 C; Package / Case: 0805; LCSC Part #: C2932476
footprint CAP_0805
pins: 1, 2

## 0108051541050
designator C?, comment 150 nF, 50 VDC
CAP, size 0805, 150 nF, 50 VDC, 10%; Manufacturer: TDK; Manufacturer Part Number: CGA4J2X7R1H154K125AD; Capacitance: 150 nF; Tolerance: +/-10%; Voltage Rating DC: 50 VDC; Packaging: Tape and Reel; Supplier 1 URL: https://www.mouser.vn/ProductDetail/TDK/CGA4J2X7R1H154K125AD?qs=xLDY6iXSiQYlxmVq9lRXDA%3D%3D&utm_source=mouser-refine-download&utm_medium=file&utm_campaign=CGA4J2X7R1H154K125AD&utm_content=TDK; Supplier 2 URL: https://www.digikey.com/en/products/detail/tdk-corporation/cga4j2x7r1h154k125ad/3933662; Supplier 3 URL: N/A; Value: 150 nF, 50 VDC; Supplier 1: Mouser; Supplier 1 Part Number: 810-CGA4J2X7R1H154KD; Supplier 2: Digi-Key; Supplier 2 Part Number: 445-9929-2-ND; Supplier 3: thegioiic; Supplier 3 Part Number: OEM; ComponentLink1Description: Datasheet; ComponentLink1URL: https://product.tdk.com/system/files/dam/doc/product/capacitor/ceramic/mlcc/catalog/mlcc_automotive_epoxy_en.pdf?ref_disty=mouser; Mount: SMD/SMT; Operating Temperature Max: + 85 C; Operating Temperature Min: - 40 C; Package / Case: 0805
footprint CAP_0805
pins: 1, 2

## 0108051551016
designator C?, comment 1.5 uF, 16 VDC
CAP, size 0805, 1.5 uF, 16 VDC, 10%; Manufacturer: TDK; Manufacturer Part Number: CGA4J3X7R1C155K125AB; Capacitance: 1.5 uF; Tolerance: +/-10%; Voltage Rating DC: 16 VDC; Packaging: Tape and Reel; Supplier 1 URL: https://www.mouser.vn/ProductDetail/TDK/CGA4J3X7R1C155K125AB?qs=NRhsANhppD%252BvVojlPq0ZpA%3D%3D&utm_source=mouser-refine-download&utm_medium=file&utm_campaign=CGA4J3X7R1C155K125AB&utm_content=TDK; Supplier 2 URL: https://www.digikey.com/en/products/detail/tdk-corporation/CGA4J3X7R1C155K125AB/2443168?s=N4IgTCBcDaICxwKwFpEDYCcAGZZkDkAREAXQF8g; Supplier 3 URL: N/A; Value: 1.5 uF, 16 VDC; Supplier 1: Mouser; Supplier 1 Part Number: 810-CGA4J3X7R1C155K; Supplier 2: Digi-Key; Supplier 2 Part Number: 445-5690-2-ND; Supplier 3: thegioiic; Supplier 3 Part Number: OEM; ComponentLink1Description: Datasheet; ComponentLink1URL: https://product.tdk.com/system/files/dam/doc/product/capacitor/ceramic/mlcc/catalog/mlcc_automotive_general_en.pdf?ref_disty=mouser; Mount: SMD/SMT; Operating Temperature Max: + 85 C; Operating Temperature Min: - 40 C; Package / Case: 0805
footprint CAP_0805
pins: 1, 2

## 0108051551025
designator C?, comment 1.5 uF, 25 VDC
CAP, size 0805, 1.5 uF, 25 VDC, 10%; Manufacturer: TDK; Manufacturer Part Number: CGA4J3X7R1E155K125AB; Capacitance: 1.5 uF; Tolerance: +/-10%; Voltage Rating DC: 25 VDC; Packaging: Tape and Reel; Supplier 1 URL: https://www.mouser.vn/ProductDetail/TDK/CGA4J3X7R1E155K125AB?qs=xLDY6iXSiQa38s1zD%252BWqlw%3D%3D&utm_source=mouser-refine-download&utm_medium=file&utm_campaign=CGA4J3X7R1E155K125AB&utm_content=TDK; Supplier 2 URL: https://www.digikey.com/en/products/detail/tdk-corporation/cga4j3x7r1e155k125ab/3949992; Supplier 3 URL: N/A; Value: 1.5 uF, 25 VDC; Supplier 1: Mouser; Supplier 1 Part Number: 810-CGA4J3X7R1E155KB; Supplier 2: Digi-Key; Supplier 2 Part Number: 445-12756-2-ND; Supplier 3: thegioiic; Supplier 3 Part Number: OEM; ComponentLink1Description: Datasheet; ComponentLink1URL: https://product.tdk.com/system/files/dam/doc/product/capacitor/ceramic/mlcc/catalog/mlcc_automotive_general_en.pdf?ref_disty=mouser; Mount: SMD/SMT; Operating Temperature Max: + 85 C; Operating Temperature Min: - 40 C; Package / Case: 0805
footprint CAP_0805
pins: 1, 2

## 0108051551035
designator C?, comment 1.5 uF, 35 VDC
CAP, size 0805, 1.5 uF, 35 VDC, 10%; Manufacturer: TDK; Manufacturer Part Number: CGA4J1X7R1V155K125AC; Capacitance: 1.5 uF; Tolerance: +/-10%; Voltage Rating DC: 35 VDC; Packaging: Tape and Reel; Supplier 1 URL: https://www.mouser.vn/ProductDetail/TDK/CGA4J1X7R1V155K125AC?qs=xLDY6iXSiQYmXDlSh4LLCg%3D%3D&utm_source=mouser-refine-download&utm_medium=file&utm_campaign=CGA4J1X7R1V155K125AC&utm_content=TDK; Supplier 2 URL: https://www.digikey.com/en/products/detail/tdk-corporation/cga4j1x7r1v155k125ac/3950002; Supplier 3 URL: N/A; Value: 1.5 uF, 35 VDC; Supplier 1: Mouser; Supplier 1 Part Number: 810-CGA4J1X7R1V155KC; Supplier 2: Digi-Key; Supplier 2 Part Number: 445-12766-2-ND; Supplier 3: thegioiic; Supplier 3 Part Number: OEM; ComponentLink1Description: Datasheet; ComponentLink1URL: https://product.tdk.com/system/files/dam/doc/product/capacitor/ceramic/mlcc/catalog/mlcc_automotive_general_en.pdf?ref_disty=mouser; Mount: SMD/SMT; Operating Temperature Max: + 85 C; Operating Temperature Min: - 40 C; Package / Case: 0805
footprint CAP_0805
pins: 1, 2

## 0108051551050
designator C?, comment 1.5 uF, 50 VDC
CAP, size 0805, 1.5 uF, 50 VDC, 10%; Manufacturer: TDK; Manufacturer Part Number: CGA4J3X7R1H155K125AB; Capacitance: 1.5 uF; Tolerance: +/-10%; Voltage Rating DC: 50 VDC; Packaging: Tape and Reel; Supplier 1 URL: https://www.mouser.vn/ProductDetail/TDK/CGA4J3X7R1H155K125AB?qs=xLDY6iXSiQYujDvoHVrEpQ%3D%3D&utm_source=mouser-refine-download&utm_medium=file&utm_campaign=CGA4J3X7R1H155K125AB&utm_content=TDK; Supplier 2 URL: https://www.digikey.com/en/products/detail/tdk-corporation/cga4j3x7r1h155k125ab/4931474; Supplier 3 URL: N/A; Value: 1.5 uF, 50 VDC; Supplier 1: Mouser; Supplier 1 Part Number: 810-CGA4J3X7R1H155KB; Supplier 2: Digi-Key; Supplier 2 Part Number: 445-174427-2-ND; Supplier 3: thegioiic; Supplier 3 Part Number: OEM; ComponentLink1Description: Datasheet; ComponentLink1URL: https://product.tdk.com/system/files/dam/doc/product/capacitor/ceramic/mlcc/catalog/mlcc_automotive_general_en.pdf?ref_disty=mouser; Mount: SMD/SMT; Operating Temperature Max: + 85 C; Operating Temperature Min: - 40 C; Package / Case: 0805
footprint CAP_0805
pins: 1, 2

## 0108052231050
designator C?, comment 22 nF, 50 VDC
CAP, size 0805, 22 nF, 50 VDC, 10%; Manufacturer: TDK; Manufacturer Part Number: CEU4J2X7R1H223K125AE; Capacitance: 22 nF; Tolerance: +/-10%; Voltage Rating DC: 50 VDC; Packaging: Tape and Reel; Supplier 1 URL: https://www.mouser.vn/ProductDetail/TDK/CEU4J2X7R1H223K125AE?qs=NRhsANhppD%2FAKCv2humMEQ%3D%3D&utm_source=mouser-refine-download&utm_medium=file&utm_campaign=CEU4J2X7R1H223K125AE&utm_content=TDK; Supplier 2 URL: https://www.digikey.com/en/products/detail/tdk-corporation/ceu4j2x7r1h223k125ae/2781258; Supplier 3 URL: N/A; Value: 22 nF, 50 VDC; Supplier 1: Mouser; Supplier 1 Part Number: 810-CEU4J2X7R1H223K; Supplier 2: Digi-Key; Supplier 2 Part Number: 445-7857-2-ND; Supplier 3: thegioiic; Supplier 3 Part Number: OEM; ComponentLink1Description: Datasheet; ComponentLink1URL: https://product.tdk.com/system/files/dam/doc/product/capacitor/ceramic/mlcc/catalog/mlcc_automotive_serial_en.pdf?ref_disty=mouser; Mount: SMD/SMT; Operating Temperature Max: + 85 C; Operating Temperature Min: - 40 C; Package / Case: 0805
footprint CAP_0805
pins: 1, 2

## 0108052241025
designator C?, comment 220 nF, 25 VDC
CAP, size 0805, 220 nF, 25 VDC, 10%; Manufacturer: TDK; Manufacturer Part Number: CGA4J2X8R1E224K125AA; Capacitance: 220 nF; Tolerance: +/-10%; Voltage Rating DC: 25 VDC; Packaging: Tape and Reel; Supplier 1 URL: https://www.mouser.vn/ProductDetail/TDK/CGA4J2X8R1E224K125AA?qs=NRhsANhppD8jKRBHYxeyYA%3D%3D&utm_source=mouser-refine-download&utm_medium=file&utm_campaign=CGA4J2X8R1E224K125AA&utm_content=TDK; Supplier 2 URL: https://www.digikey.com/en/products/detail/tdk-corporation/cga4j2x8r1e224k125aa/2443384; Supplier 3 URL: N/A; Value: 220 nF, 25 VDC; Supplier 1: Mouser; Supplier 1 Part Number: 810-CGA4J2X8R1E224K; Supplier 2: Digi-Key; Supplier 2 Part Number: 445-5906-2-ND; Supplier 3: thegioiic; Supplier 3 Part Number: OEM; ComponentLink1Description: Datasheet; ComponentLink1URL: https://product.tdk.com/system/files/dam/doc/product/capacitor/ceramic/mlcc/catalog/mlcc_automotive_hightemp_en.pdf?ref_disty=mouser; Mount: SMD/SMT; Operating Temperature Max: + 85 C; Operating Temperature Min: - 40 C; Package / Case: 0805
footprint CAP_0805
pins: 1, 2

## 0108052241050
designator C?, comment 220 nF, 50 VDC
CAP, size 0805, 220 nF, 50 VDC, 10%; Manufacturer: TDK; Manufacturer Part Number: CGA4J3X8R1H224K125AE; Capacitance: 220 nF; Tolerance: +/-10%; Voltage Rating DC: 50 VDC; Packaging: Tape and Reel; Supplier 1 URL: https://www.mouser.vn/ProductDetail/TDK/CGA4J3X8R1H224K125AE?qs=nQSIdc08i%252Be86pkEPTvECQ%3D%3D&utm_source=mouser-refine-download&utm_medium=file&utm_campaign=CGA4J3X8R1H224K125AE&utm_content=TDK; Supplier 2 URL: https://www.digikey.com/en/products/detail/tdk-corporation/cga4j3x8r1h224k125ae/5809350; Supplier 3 URL: N/A; Value: 220 nF, 50 VDC; Supplier 1: Mouser; Supplier 1 Part Number: 810-CGA4J3X8R1H224KA; Supplier 2: Digi-Key; Supplier 2 Part Number: 445-173785-2-ND; Supplier 3: thegioiic; Supplier 3 Part Number: OEM; ComponentLink1Description: Datasheet; ComponentLink1URL: https://product.tdk.com/system/files/dam/doc/product/capacitor/ceramic/mlcc/catalog/mlcc_automotive_soft_en.pdf?ref_disty=mouser; Mount: SMD/SMT; Operating Temperature Max: + 85 C; Operating Temperature Min: - 40 C; Package / Case: 0805
footprint CAP_0805
pins: 1, 2